# Altium footprint library switch-tact.PCBLIB: 6 footprints
Each footprint in its own frame and in the unit in brackets; x right, y up, seen from the top. Pads: shape width x height; smd on the part's side, far side on the other; paste and mask are expansions set on the pad; w line width, h text height; cw(c..) or ccw(c..) is an arc to the next point about the centre after c.
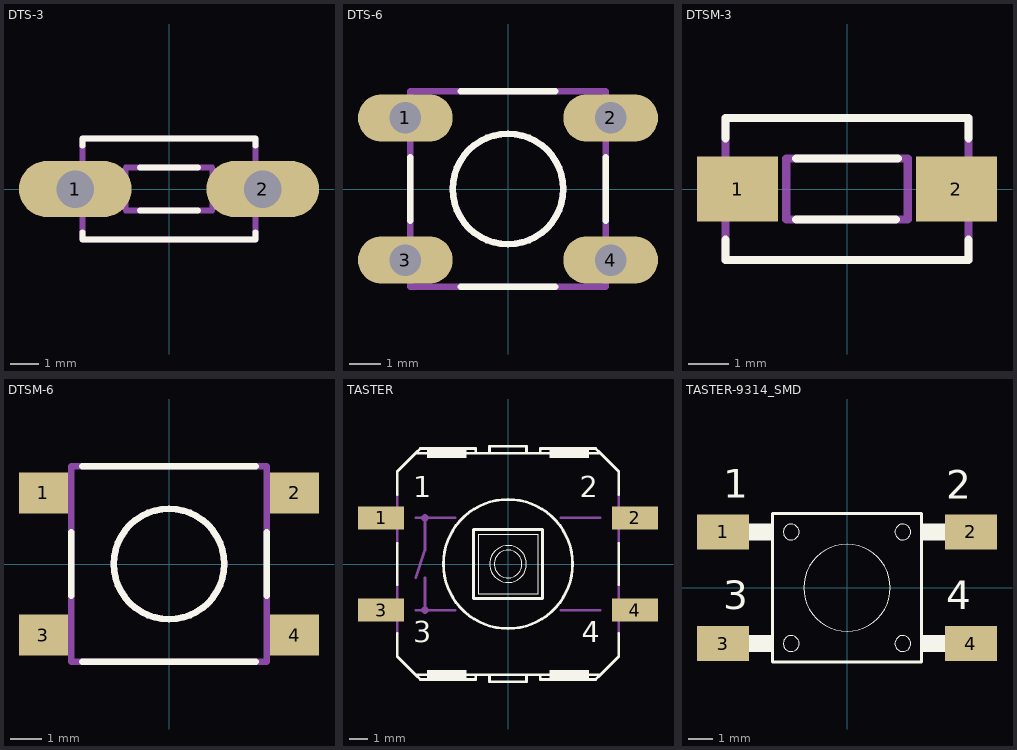
[diagram p0: the footprints below, top view; thin cyan lines are the x and y axes]

## DTS-3 [mm]
pads (2):
  oval 3.9x1.95 hole 1.3: 1(-3.25,0) 2(3.25,0)
Top Overlay:
  lines w0.203: -3,-1.5 -3,-1.75 3,-1.75 3,-1.5 ; -3,1.5 -3,1.75 3,1.75 3,1.5 ; -1,-0.75 1,-0.75 ; -1,0.75 1,0.75
Mechanical 16:
  lines w0.203: -3,-1.75 3,-1.75 3,1.75 -3,1.75 -3,-1.75 ; -1.5,-0.75 1.5,-0.75 1.5,0.75 -1.5,0.75 -1.5,-0.75

## DTS-6 [mm]
pads (4):
  oval 3x1.5 hole 1: 1(-3.25,2.25) 2(3.25,2.25) 3(-3.25,-2.25) 4(3.25,-2.25)
Top Overlay:
  circle w0.203: c0,0 r1.75
  lines w0.203: -3.1,-1 -3.1,1 ; -1.5,-3.1 1.5,-3.1 ; -1.5,3.1 1.5,3.1 ; 3.1,-1 3.1,1
Mechanical 16:
  circle w0.203: c0,0 r1.75
  lines w0.203: -3.1,-3.1 3.1,-3.1 3.1,3.1 -3.1,3.1 -3.1,-3.1

## DTSM-3 [mm]
pads (2):
  rect 2x1.6 smd: 1(-2.7,0) 2(2.7,0)
Top Overlay:
  lines w0.203: -3,-1.25 -3,-1.75 3,-1.75 3,-1.25 ; -3,1.25 -3,1.75 3,1.75 3,1.25 ; -1.25,-0.75 1.2,-0.75 ; -1.25,0.75 1.25,0.75
Mechanical 16:
  lines w0.203: -3,-1.75 3,-1.75 3,1.75 -3,1.75 -3,-1.75 ; -1.5,-0.75 1.5,-0.75 1.5,0.75 -1.5,0.75 -1.5,-0.75

## DTSM-6 [mil]
pads (4):
  rect 61.02x51.18 smd: 1(-156.5,88.58) 2(156.5,88.58) 3(-156.5,-88.58) 4(156.5,-88.58)
Top Overlay:
  circle w8: c0,0 r68.9
  lines w8: -122.05,-39.37 -122.05,39.37 ; -108.27,-122.05 108.27,-122.05 ; -108.27,122.05 108.27,122.05 ; 122.05,-39.37 122.05,39.37
Mechanical 16:
  circle w8: c0,0 r68.9
  lines w8: -122.05,-122.05 122.05,-122.05 122.05,122.05 -122.05,122.05 -122.05,-122.05

## TASTER [mm]
pads (4):
  rect 2.54x1.27 smd: 1(-6.985,2.54) 2(6.985,2.54) 3(-6.985,-2.54) 4(6.985,-2.54)
Top Overlay:
  circle w0.152: c0,0 r3.556
  circle w0.051: c0,0 r1.016
  circle w0.051: c0,0 r0.762
  rectangle: 2.286,5.842 4.445,6.35
  rectangle: -4.445,5.842 -2.286,6.35
  rectangle: 2.286,-6.35 4.445,-5.842
  rectangle: -4.445,-6.35 -2.286,-5.842
  lines w0.051: -1.651,-1.651 1.651,-1.651 1.651,1.651 -1.651,1.651 -1.651,-1.651
  lines w0.152: -6.096,-3.81 -6.096,-5.08 -5.08,-6.096 ; -6.096,-1.143 -6.096,1.143 ; -6.096,3.81 -6.096,5.08 -5.08,6.096 ; 6.096,-3.81 6.096,-5.08 5.08,-6.096 ; 6.096,-1.143 6.096,1.143 ; 6.096,3.81 6.096,5.08 5.08,6.096 ; -5.08,-6.096 -1.778,-6.096 ; -5.08,-6.096 -4.826,-6.35 -1.778,-6.35 -1.778,-6.096 ; -5.08,6.096 -1.778,6.096 ; -5.08,6.096 -4.826,6.35 -1.778,6.35 -1.778,6.096 ; -1.778,-6.096 -1.016,-6.096 ; -1.778,6.096 -1.016,6.096 ; -1.016,-6.096 -1.016,-6.477 1.016,-6.477 1.016,-6.096 ; -1.016,-6.096 1.016,-6.096 ; -1.016,6.096 -1.016,6.477 1.016,6.477 1.016,6.096 ; -1.016,6.096 1.016,6.096 ; 1.016,-6.096 1.778,-6.096 ; 1.016,6.096 1.778,6.096 ; 1.778,-6.096 1.778,-6.35 4.826,-6.35 5.08,-6.096 ; 1.778,-6.096 5.08,-6.096 ; 1.778,6.096 5.08,6.096 ; 1.778,6.096 1.778,6.35 4.826,6.35 5.08,6.096 ; -1.905,-1.905 1.905,-1.905 1.905,1.905 -1.905,1.905 -1.905,-1.905
  text "1" at -5.207,3.302 h1.97
  text "2" at 3.937,3.302 h1.97
  text "3" at -5.207,-4.699 h1.97
  text "4" at 4.064,-4.699 h1.97
Mechanical 16:
  circle w0.152: c-4.572,2.54 r0.127
  circle w0.152: c-4.572,-2.54 r0.127
  rectangle: 6.096,-2.921 6.604,-2.032
  rectangle: 6.096,2.032 6.604,2.921
  rectangle: -6.604,2.032 -6.096,2.921
  rectangle: -6.604,-2.921 -6.096,-2.032
  lines w0.152: -6.096,-3.81 -6.096,-1.143 ; -6.096,1.143 -6.096,3.81 ; -5.08,-2.54 -4.572,-2.54 ; -5.08,-0.762 -4.572,0.762 -4.572,2.54 ; -5.08,2.54 -4.572,2.54 ; -4.572,-0.762 -4.572,-2.54 ; -2.921,-2.54 -4.572,-2.54 ; -2.921,2.54 -4.572,2.54 ; 2.921,-2.54 5.08,-2.54 ; 2.921,2.54 5.08,2.54 ; 6.096,-3.81 6.096,-1.143 ; 6.096,1.143 6.096,3.81

## TASTER-9314_SMD [mm]
pads (4):
  rect 2.1x1.4 smd: 1(-5,2.25) 2(5,2.25) 3(-5,-2.25) 4(5,-2.25)
Top Overlay:
  circle w0: c-2.25,2.25 r0.32
  circle w0: c-2.25,-2.25 r0.32
  circle w0: c2.25,-2.25 r0.32
  circle w0: c2.25,2.25 r0.32
  circle w0: c0,0 r1.749
  rectangle: 3,-2.6 5,-1.9
  rectangle: 3,1.9 5,2.6
  rectangle: -5,1.9 -3,2.6
  rectangle: -5,-2.6 -3,-1.9
  lines w0: -3.95,2.25 -3.95,2.3 ; -3.65,-2.25 -3.65,-2.05
  lines w0.127: -3,-3 3,-3 3,3 -3,3 -3,-3
  text "1" at -5,3.25 h1.97
  text "2" at 4,3.2 h1.97
  text "3" at -5,-1.25 h1.97
  text "4" at 4,-1.25 h1.97